# Altium schematic symbol library SCH - CONNECTORS - RF - AMPHENOL BNC_BKHD_4.SchLib: 1 symbol
Pins are listed as number, name and electrical type; pins without a type are passive.

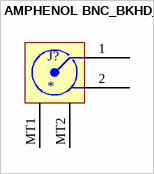
[diagram p0: symbol AMPHENOL BNC_BKHD_4]

## AMPHENOL BNC_BKHD_4
designator J?
pins: 1 SIG (power), 2 GND (power), MT1 MNT 1 (power), MT2 MNT (power)